# EAGLE library part LT1303CN8PBF (library LT1303CN8PBF)
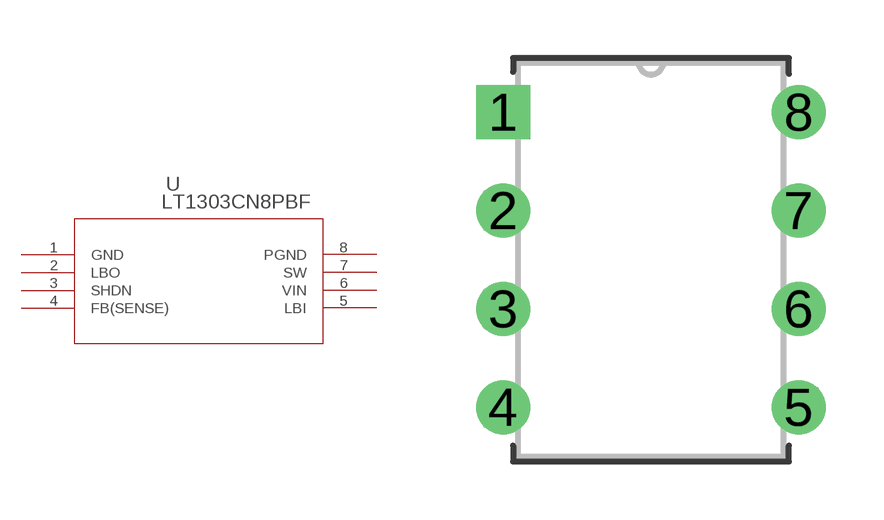
[diagram p0: symbol with the pads of PDIP-8_N; footprint PDIP-8_N]

Designator prefix U

## LT1303CN8PBF (Description: LT1303 - Micropower High Efficiency DC/DC Converters with Low-Battery Detector Adjustable and Fixed 5V; Digi-Key_Part_Number: LT1303CN8#PBF-ND; Digi-Key_Purchase_URL: https://www.digikey.de/product-detail/en/linear-technology-analog-devices/LT1303CN8-PBF/LT1303CN8-PBF-ND/889063?utm_source=snapeda&utm_medium=aggregator&utm_campaign=symbol; MF: Linear Technology/Analog; MP: LT1303CN8#PBF; Package: PDIP-8 Linear Technology)  [PDIP-8_N]
1  GND  pwr
2  LBO  pas
3  SHDN  pas
4  FB(SENSE)  pas
5  LBI  pas
6  VIN  in
7  SW  pas
8  PGND  pwr

## Footprint PDIP-8_N (pad centres in mm)
drill 0.889 pad 1.397 square: 1 -7.62,7.62
drill 0.889 pad 1.397: 2 -7.62,5.08; 3 -7.62,2.54; 4 -7.62,0; 5 0,0; 6 0,2.54; 7 0,5.08; 8 0,7.62